# Altium schematic symbol library LS05-13BxxR3.SchLib: 1 symbol
Pins are listed as number, name and electrical type; pins without a type are passive.

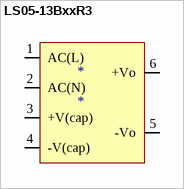
[diagram p0: symbol LS05-13BxxR3]

## LS05-13BxxR3
designator *
footprint LS05-13BxxR3
pins: 1 AC(L), 2 AC(N), 3 +V(cap), 4 -V(cap), 5 -Vo, 6 +Vo